# Altium schematic symbol library Schlib.SchLib: 2 symbols
Pins are listed as number, name and electrical type; pins without a type are passive.

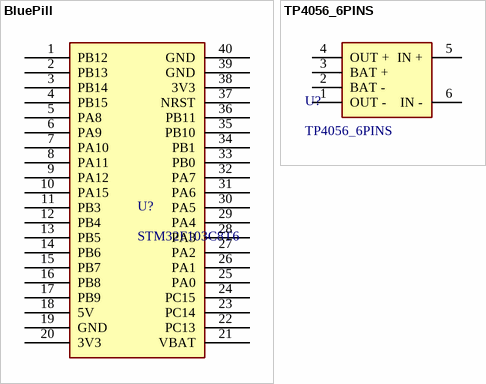
[diagram p0: symbols BluePill to TP4056_6PINS]

## BluePill
designator U?, comment STM32F103C8T6
Designed By @Alixahedi
footprint Stm32 BluePill
pins: 1 PB12, 2 PB13, 3 PB14, 4 PB15, 5 PA8, 6 PA9, 7 PA10, 8 PA11, 9 PA12, 10 PA15, 11 PB3, 12 PB4, 13 PB5, 14 PB6, 15 PB7, 16 PB8, 17 PB9, 18 5V, 19 GND, 20 3V3, 21 VBAT, 22 PC13, 23 PC14, 24 PC15, 25 PA0, 26 PA1, 27 PA2, 28 PA3, 29 PA4, 30 PA5, 31 PA6, 32 PA7, 33 PB0, 34 PB1, 35 PB10, 36 PB11, 37 NRST, 38 3V3, 39 GND, 40 GND

## TP4056_6PINS
designator U?
MODULE BATTERY CHARGER 6 PINS
footprint TP4056_6PINs (MODULE BATTERY CHARGER)
pins: 1 OUT -, 2 BAT -, 3 BAT +, 4 OUT +, 5 IN +, 6 IN -